# Altium schematic symbol library ti-davinci.SchLib: 1 symbol
Pins are listed as number, name and electrical type; pins without a type are passive.

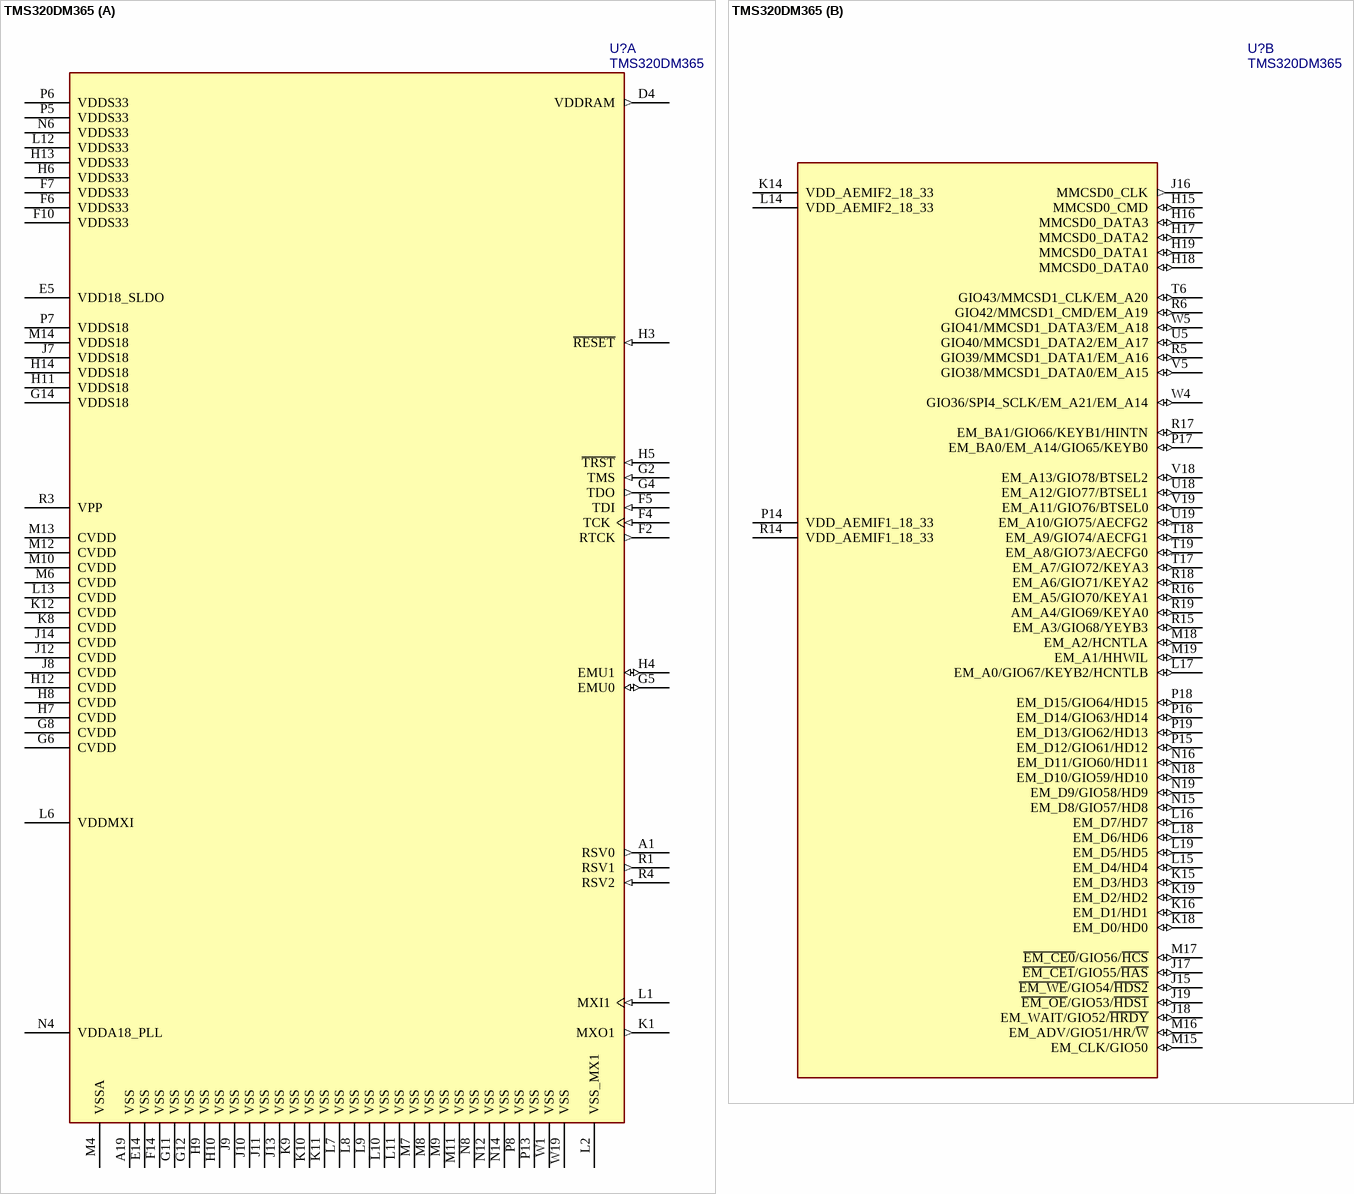
[diagram p0: symbol TMS320DM365]

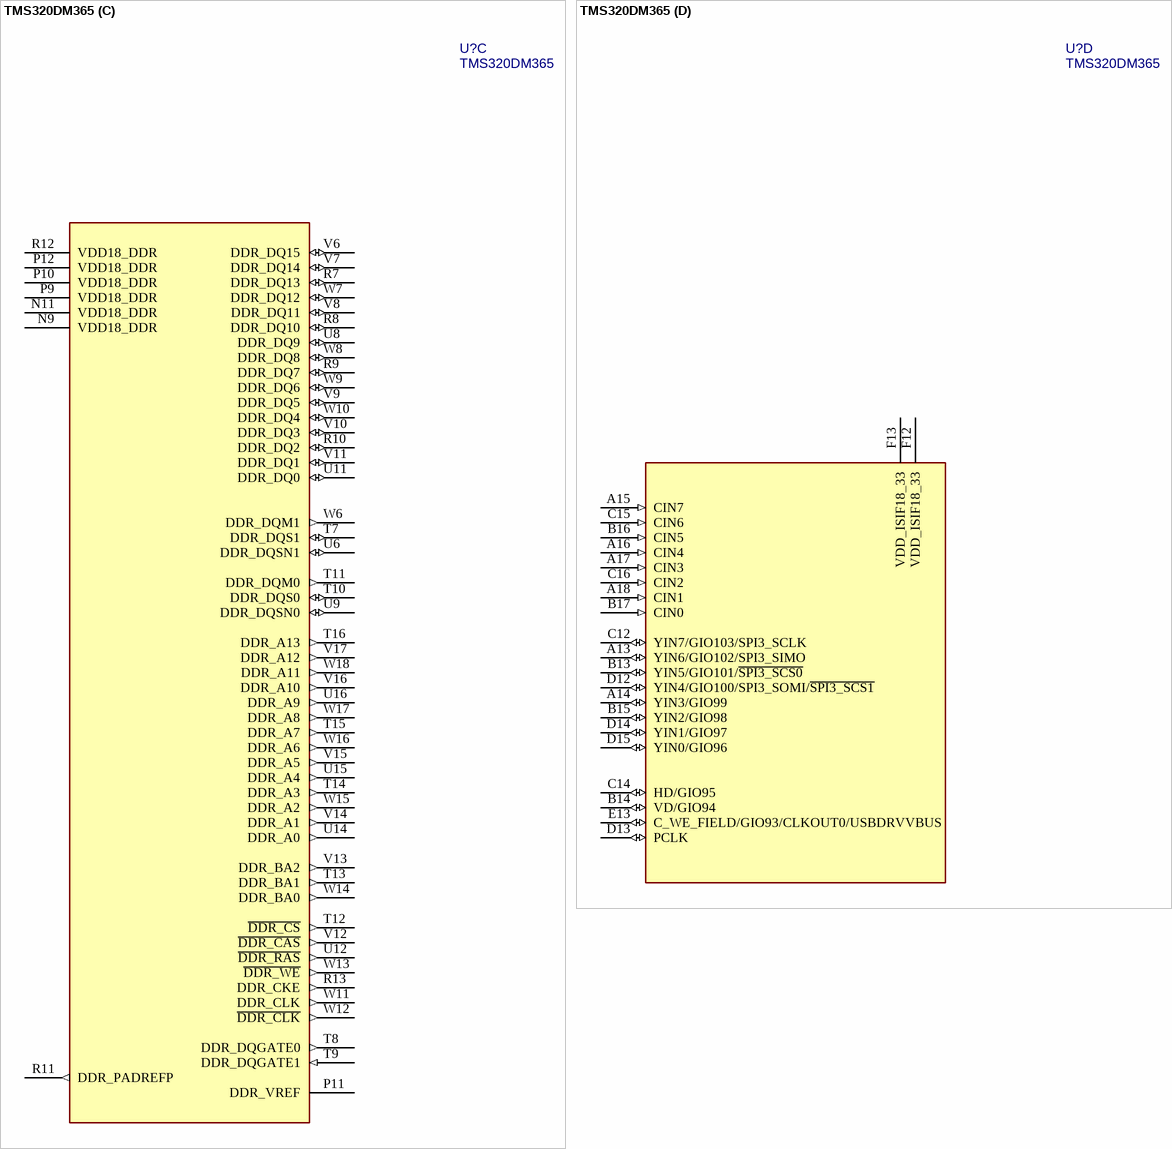
[diagram p1: symbol TMS320DM365]

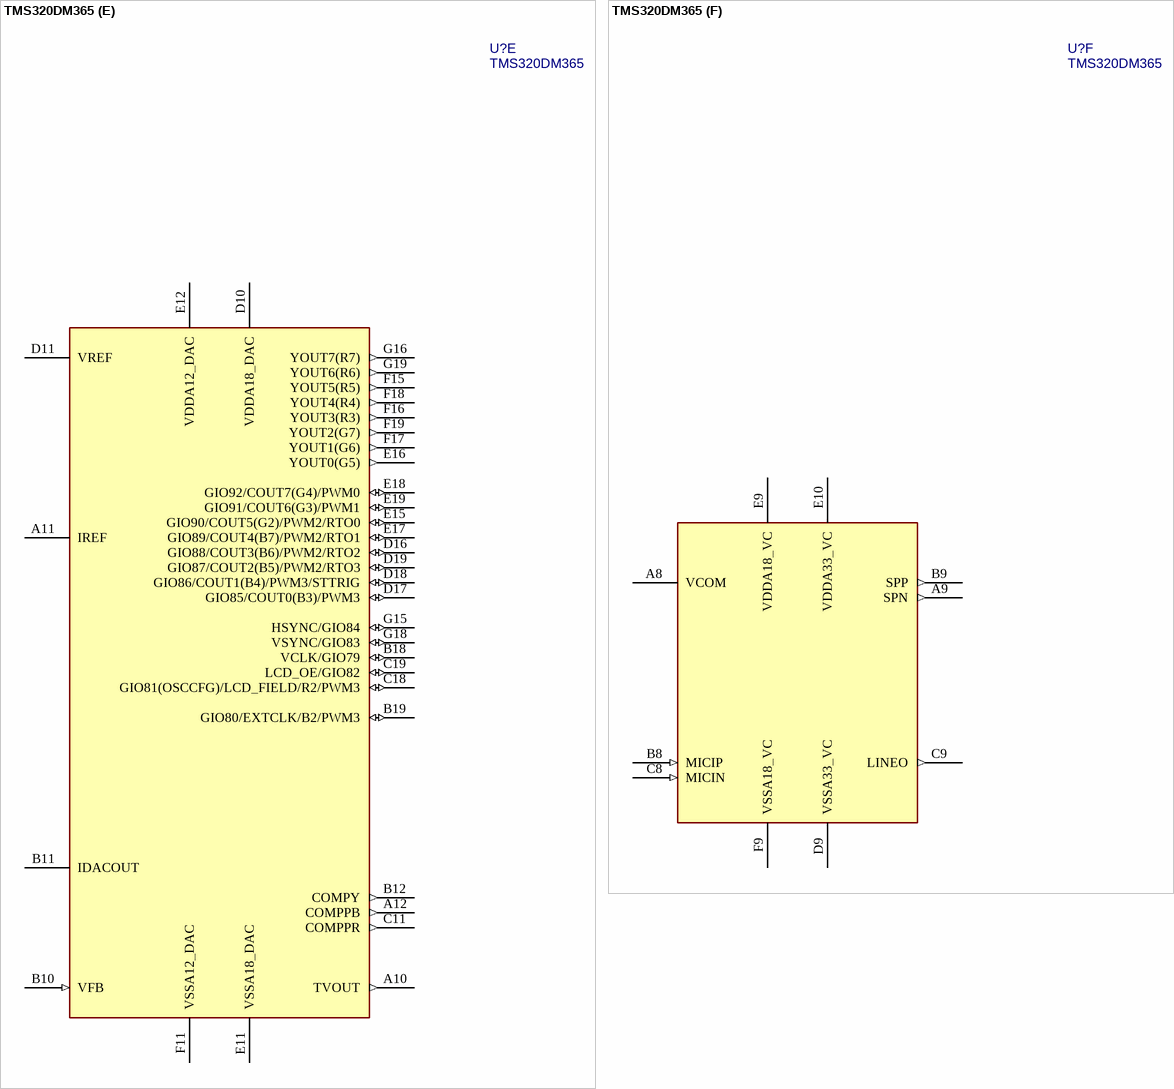
[diagram p2: symbol TMS320DM365]

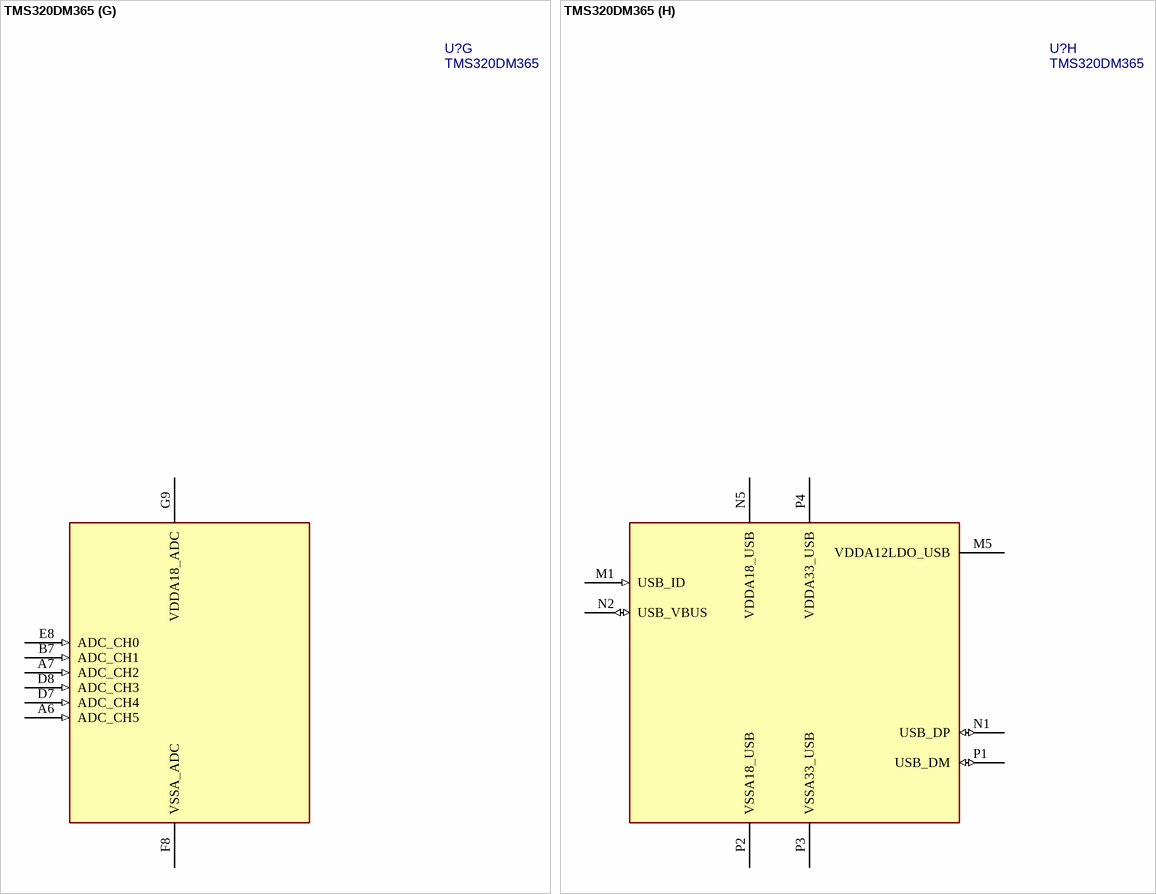
[diagram p3: symbol TMS320DM365]

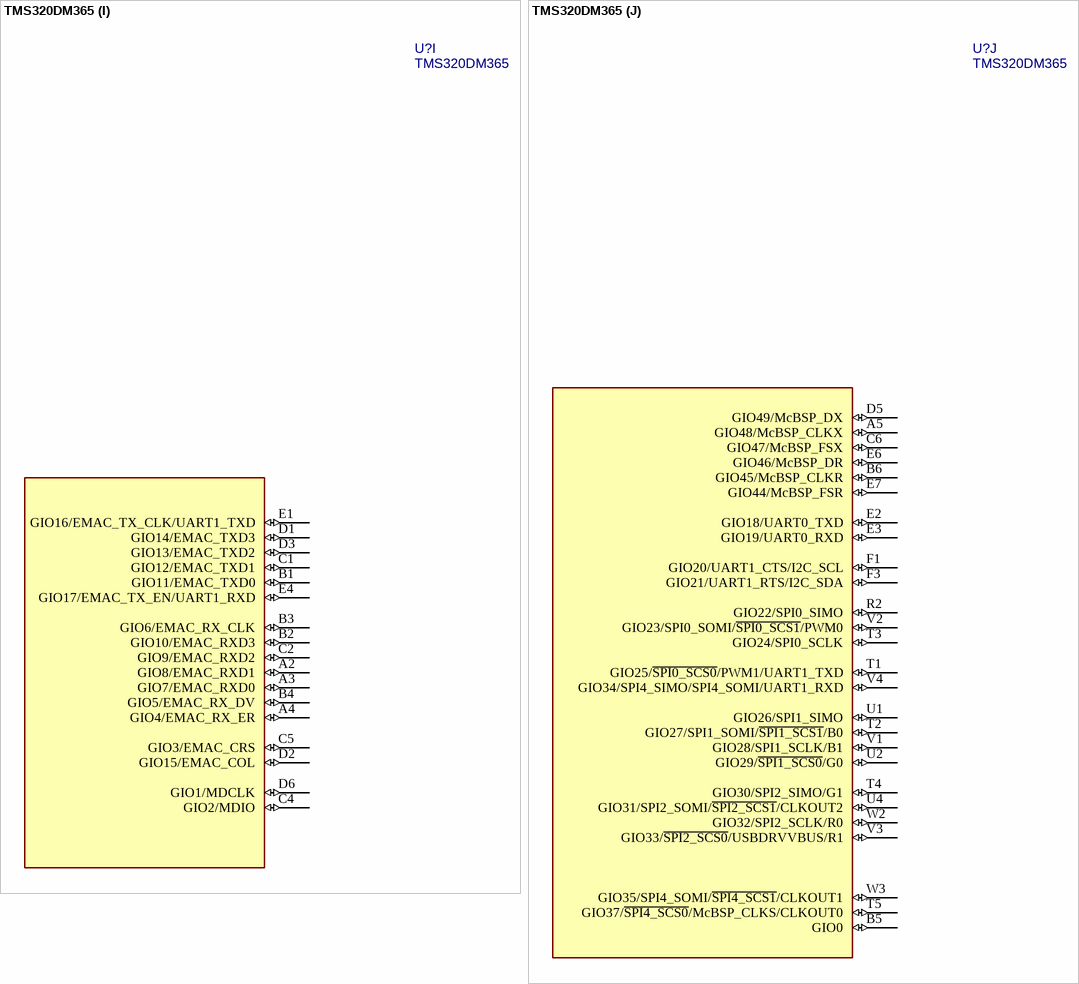
[diagram p4: symbol TMS320DM365]

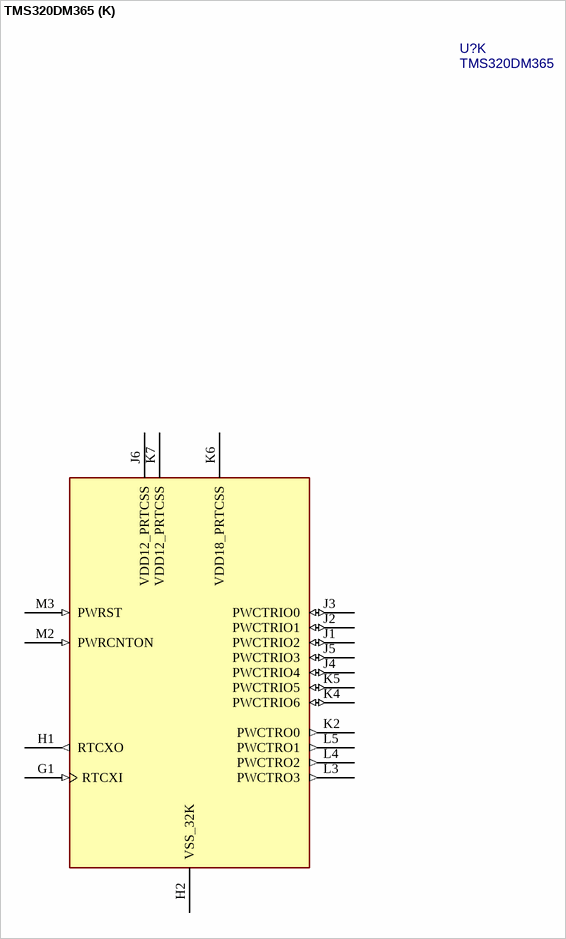
[diagram p5: symbol TMS320DM365]

## TMS320DM365
designator U?
Value: TMS320DM365; Package: *; PN: *; ExtraInfo: *
footprint PBGA-N338
footprint PBGA-N338 (BGA, 338-Leads, Body 13.0x13.0mm,  Pitch 0.65mm)
part A pins: A1 RSV0 (out), A19 VSS (power) "Digital Ground", D4 VDDRAM (out), E5 VDD18_SLDO (power) "Power supply for internal RAM", E14 VSS (power) "Digital Ground", F2 RTCK (out) "JTAG test clock output", F4 TCK (in) "JTAG test clock input", F5 TDI (in) "JTAG test data input", F6 VDDS33 (power) "Power supply for 3.3V I/O", F7 VDDS33 (power) "Power supply for 3.3V I/O", F10 VDDS33 (power) "Power supply for 3.3V I/O", F14 VSS (power) "Digital Ground", G2 TMS (in) "JTAG test mode select", G4 TDO (out) "JTAG test data output", G5 EMU0 (io) "JTAG emulation 0 I/O", G6 CVDD (power) "Core Power", G8 CVDD (power) "Core Power", G11 VSS (power) "Digital Ground", G12 VSS (power) "Digital Ground", G14 VDDS18 (power) "Power supply for 1.8V I/O", H3 ~{RESET} (in) "Global chip reset", H4 EMU1 (io) "JTAG emulation 1 I/O", H5 ~{TRST} (in) "JTAG test logic reset", H6 VDDS33 (power) "Power supply for 3.3V I/O", H7 CVDD (power) "Core Power", H8 CVDD (power) "Core Power", H9 VSS (power) "Digital Ground", H10 VSS (power) "Digital Ground", H11 VDDS18 (power) "Power supply for 1.8V I/O", H12 CVDD (power) "Core Power", H13 VDDS33 (power) "Power supply for 3.3V I/O", H14 VDDS18 (power) "Power supply for 1.8V I/O", J7 VDDS18 (power) "Power supply for 1.8V I/O", J8 CVDD (power) "Core Power", J9 VSS (power) "Digital Ground", J10 VSS (power) "Digital Ground", J11 VSS (power) "Digital Ground", J12 CVDD (power) "Core Power", J13 VSS (power) "Digital Ground", J14 CVDD (power) "Core Power", K1 MXO1 (out) "Onput for system oscillator", K8 CVDD (power) "Core Power", K9 VSS (power) "Digital Ground", K10 VSS (power) "Digital Ground", K11 VSS (power) "Digital Ground", K12 CVDD (power) "Core Power", L1 MXI1 (in) "Crystal input for system oscillator", L2 VSS_MX1 (power) "System oscillator ground", L6 VDDMXI (power) "Popwer supply for PLL oscillator (1.8V)", L7 VSS (power) "Digital Ground", L8 VSS (power) "Digital Ground", L9 VSS (power) "Digital Ground", L10 VSS (power) "Digital Ground", L11 VSS (power) "Digital Ground", L12 VDDS33 (power) "Power supply for 3.3V I/O", L13 CVDD (power) "Core Power", M4 VSSA (power) "Analog ground", M6 CVDD (power) "Core Power", M7 VSS (power) "Digital Ground", M8 VSS (power) "Digital Ground", M9 VSS (power) "Digital Ground", M10 CVDD (power) "Core Power", M11 VSS (power) "Digital Ground", M12 CVDD (power) "Core Power", M13 CVDD (power) "Core Power", M14 VDDS18 (power) "Power supply for 1.8V I/O", N4 VDDA18_PLL (power) "Analog power for PLL (1.8V)", N6 VDDS33 (power) "Power supply for 3.3V I/O", N8 VSS (power) "Digital Ground", N12 VSS (power) "Digital Ground", N14 VSS (power) "Digital Ground", P5 VDDS33 (power) "Power supply for 3.3V I/O", P6 VDDS33 (power) "Power supply for 3.3V I/O", P7 VDDS18 (power) "Power supply for 1.8V I/O", P8 VSS (power) "Digital Ground", P13 VSS (power) "Digital Ground", R1 RSV1 (out), R3 VPP (power) "Must be connected to CVDD", R4 RSV2 (in) "This pin must be tied to ground", W1 VSS (power) "Digital Ground", W19 VSS (power) "Digital Ground"
part B pins: H15 MMCSD0_CMD (io), H16 MMCSD0_DATA3 (io), H17 MMCSD0_DATA2 (io), H18 MMCSD0_DATA0 (io), H19 MMCSD0_DATA1 (io), J15 ~{EM_WE}/GIO54/~{HDS2} (io), J16 MMCSD0_CLK (out), J17 ~{EM_CE1}/GIO55/~{HAS} (io), J18 EM_WAIT/GIO52/~{HRDY} (io), J19 ~{EM_OE}/GIO53/~{HDS1} (io), K14 VDD_AEMIF2_18_33 (power) "Power supply for AEMIF (3.3/1.8V)", K15 EM_D3/HD3 (io), K16 EM_D1/HD1 (io), K18 EM_D0/HD0 (io), K19 EM_D2/HD2 (io), L14 VDD_AEMIF2_18_33 (power) "Power supply for AEMIF (3.3/1.8V)", L15 EM_D4/HD4 (io), L16 EM_D7/HD7 (io), L17 EM_A0/GIO67/KEYB2/HCNTLB (io), L18 EM_D6/HD6 (io), L19 EM_D5/HD5 (io), M15 EM_CLK/GIO50 (io), M16 EM_ADV/GIO51/HR/~{W} (io), M17 ~{EM_CE0}/GIO56/~{HCS} (io), M18 EM_A2/HCNTLA (io), M19 EM_A1/HHWIL (io), N15 EM_D8/GIO57/HD8 (io), N16 EM_D11/GIO60/HD11 (io), N18 EM_D10/GIO59/HD10 (io), N19 EM_D9/GIO58/HD9 (io), P14 VDD_AEMIF1_18_33 (power) "Power supply for AEMIF (3.3/1.8V)", P15 EM_D12/GIO61/HD12 (io), P16 EM_D14/GIO63/HD14 (io), P17 EM_BA0/EM_A14/GIO65/KEYB0 (io), P18 EM_D15/GIO64/HD15 (io), P19 EM_D13/GIO62/HD13 (io), R5 GIO39/MMCSD1_DATA1/EM_A16 (io), R6 GIO42/MMCSD1_CMD/EM_A19 (io), R14 VDD_AEMIF1_18_33 (power) "Power supply for AEMIF (3.3/1.8V)", R15 EM_A3/GIO68/YEYB3 (io), R16 EM_A5/GIO70/KEYA1 (io), R17 EM_BA1/GIO66/KEYB1/HINTN (io), R18 EM_A6/GIO71/KEYA2 (io), R19 AM_A4/GIO69/KEYA0 (io), T6 GIO43/MMCSD1_CLK/EM_A20 (io), T17 EM_A7/GIO72/KEYA3 (io), T18 EM_A9/GIO74/AECFG1 (io), T19 EM_A8/GIO73/AECFG0 (io), U5 GIO40/MMCSD1_DATA2/EM_A17 (io), U18 EM_A12/GIO77/BTSEL1 (io), U19 EM_A10/GIO75/AECFG2 (io), V5 GIO38/MMCSD1_DATA0/EM_A15 (io), V18 EM_A13/GIO78/BTSEL2 (io), V19 EM_A11/GIO76/BTSEL0 (io), W4 GIO36/SPI4_SCLK/EM_A21/EM_A14 (io), W5 GIO41/MMCSD1_DATA3/EM_A18 (io)
part C pins: N9 VDD18_DDR (power) "Powr supply for DDR (1.8V)", N11 VDD18_DDR (power) "Powr supply for DDR (1.8V)", P9 VDD18_DDR (power) "Powr supply for DDR (1.8V)", P10 VDD18_DDR (power) "Powr supply for DDR (1.8V)", P11 DDR_VREF (power), P12 VDD18_DDR (power) "Powr supply for DDR (1.8V)", R7 DDR_DQ13 (io), R8 DDR_DQ10 (io), R9 DDR_DQ7 (io), R10 DDR_DQ2 (io), R11 DDR_PADREFP (out), R12 VDD18_DDR (power) "Powr supply for DDR (1.8V)", R13 DDR_CKE (out), T7 DDR_DQS1 (io), T8 DDR_DQGATE0 (out), T9 DDR_DQGATE1 (in), T10 DDR_DQS0 (io), T11 DDR_DQM0 (out), T12 ~{DDR_CS} (out), T13 DDR_BA1 (out), T14 DDR_A3 (out), T15 DDR_A7 (out), T16 DDR_A13 (out), U6 DDR_DQSN1 (io), U8 DDR_DQ9 (io), U9 DDR_DQSN0 (io), U11 DDR_DQ0 (io), U12 ~{DDR_RAS} (out), U14 DDR_A0 (out), U15 DDR_A4 (out), U16 DDR_A9 (out), V6 DDR_DQ15 (io), V7 DDR_DQ14 (io), V8 DDR_DQ11 (io), V9 DDR_DQ5 (io), V10 DDR_DQ3 (io), V11 DDR_DQ1 (io), V12 ~{DDR_CAS} (out), V13 DDR_BA2 (out), V14 DDR_A1 (out), V15 DDR_A5 (out), V16 DDR_A10 (out), V17 DDR_A12 (out), W6 DDR_DQM1 (out), W7 DDR_DQ12 (io), W8 DDR_DQ8 (io), W9 DDR_DQ6 (io), W10 DDR_DQ4 (io), W11 DDR_CLK (out), W12 ~{DDR_CLK} (out), W13 ~{DDR_WE} (out), W14 DDR_BA0 (out), W15 DDR_A2 (out), W16 DDR_A6 (out), W17 DDR_A8 (out), W18 DDR_A11 (out)
part D pins: A13 YIN6/GIO102/SPI3_SIMO (io), A14 YIN3/GIO99 (io), A15 CIN7 (in), A16 CIN4 (in), A17 CIN3 (in), A18 CIN1 (in), B13 YIN5/GIO101/~{SPI3_SCS0} (io), B14 VD/GIO94 (io), B15 YIN2/GIO98 (io), B16 CIN5 (in), B17 CIN0 (in), C12 YIN7/GIO103/SPI3_SCLK (io), C14 HD/GIO95 (io), C15 CIN6 (in), C16 CIN2 (in), D12 YIN4/GIO100/SPI3_SOMI/~{SPI3_SCS1} (io), D13 PCLK (io), D14 YIN1/GIO97 (io), D15 YIN0/GIO96 (io), E13 C_WE_FIELD/GIO93/CLKOUT0/USBDRVVBUS (io), F12 VDD_ISIF18_33 (power) "Power supply for ISIF (3.3/1.8V)", F13 VDD_ISIF18_33 (power) "Power supply for ISIF (3.3/1.8V)"
part E pins: A10 TVOUT (out), A11 IREF, A12 COMPPB (out), B10 VFB (in), B11 IDACOUT, B12 COMPY (out), B18 VCLK/GIO79 (io), B19 GIO80/EXTCLK/B2/PWM3 (io), C11 COMPPR (out), C18 GIO81(OSCCFG)/LCD_FIELD/R2/PWM3 (io), C19 LCD_OE/GIO82 (io), D10 VDDA18_DAC (power) "Video DAC - Analog 1.8V power", D11 VREF, D16 GIO88/COUT3(B6)/PWM2/RTO2 (io), D17 GIO85/COUT0(B3)/PWM3 (io), D18 GIO86/COUT1(B4)/PWM3/STTRIG (io), D19 GIO87/COUT2(B5)/PWM2/RTO3 (io), E11 VSSA18_DAC (power) "Video DAC - Analog 1.8V ground", E12 VDDA12_DAC (power) "Video DAC - Analog 1.2V power", E15 GIO90/COUT5(G2)/PWM2/RTO0 (io), E16 YOUT0(G5) (out), E17 GIO89/COUT4(B7)/PWM2/RTO1 (io), E18 GIO92/COUT7(G4)/PWM0 (io), E19 GIO91/COUT6(G3)/PWM1 (io), F11 VSSA12_DAC (power) "Video DAC - Analog 1.2V ground", F15 YOUT5(R5) (out), F16 YOUT3(R3) (out), F17 YOUT1(G6) (out), F18 YOUT4(R4) (out), F19 YOUT2(G7) (out), G15 HSYNC/GIO84 (io), G16 YOUT7(R7) (out), G18 VSYNC/GIO83 (io), G19 YOUT6(R6) (out)
part F pins: A8 VCOM (power), A9 SPN (out), B8 MICIP (in) "MIC positive input", B9 SPP (out), C8 MICIN (in) "MIC negative input", C9 LINEO (out), D9 VSSA33_VC (power), E9 VDDA18_VC (power), E10 VDDA33_VC (power), F9 VSSA18_VC (power)
part G pins: A6 ADC_CH5 (in), A7 ADC_CH2 (in), B7 ADC_CH1 (in), D7 ADC_CH4 (in), D8 ADC_CH3 (in), E8 ADC_CH0 (in), F8 VSSA_ADC (power), G9 VDDA18_ADC (power)
part H pins: M1 USB_ID (in), M5 VDDA12LDO_USB (power), N1 USB_DP (io), N2 USB_VBUS (io), N5 VDDA18_USB (power), P1 USB_DM (io), P2 VSSA18_USB (power), P3 VSSA33_USB (power), P4 VDDA33_USB (power)
part I pins: A2 GIO8/EMAC_RXD1 (io), A3 GIO7/EMAC_RXD0 (io), A4 GIO4/EMAC_RX_ER (io), B1 GIO11/EMAC_TXD0 (io), B2 GIO10/EMAC_RXD3 (io), B3 GIO6/EMAC_RX_CLK (io), B4 GIO5/EMAC_RX_DV (io), C1 GIO12/EMAC_TXD1 (io), C2 GIO9/EMAC_RXD2 (io), C4 GIO2/MDIO (io), C5 GIO3/EMAC_CRS (io), D1 GIO14/EMAC_TXD3 (io), D2 GIO15/EMAC_COL (io), D3 GIO13/EMAC_TXD2 (io), D6 GIO1/MDCLK (io), E1 GIO16/EMAC_TX_CLK/UART1_TXD (io), E4 GIO17/EMAC_TX_EN/UART1_RXD (io)
part J pins: A5 GIO48/McBSP_CLKX (io), B5 GIO0 (io), B6 GIO45/McBSP_CLKR (io), C6 GIO47/McBSP_FSX (io), D5 GIO49/McBSP_DX (io), E2 GIO18/UART0_TXD (io), E3 GIO19/UART0_RXD (io), E6 GIO46/McBSP_DR (io), E7 GIO44/McBSP_FSR (io), F1 GIO20/UART1_CTS/I2C_SCL (io), F3 GIO21/UART1_RTS/I2C_SDA (io), R2 GIO22/SPI0_SIMO (io), T1 GIO25/~{SPI0_SCS0}/PWM1/UART1_TXD (io), T2 GIO27/SPI1_SOMI/~{SPI1_SCS1}/B0 (io), T3 GIO24/SPI0_SCLK (io), T4 GIO30/SPI2_SIMO/G1 (io), T5 GIO37/~{SPI4_SCS0}/McBSP_CLKS/CLKOUT0 (io), U1 GIO26/SPI1_SIMO (io), U2 GIO29/~{SPI1_SCS0}/G0 (io), U4 GIO31/SPI2_SOMI/~{SPI2_SCS1}/CLKOUT2 (io), V1 GIO28/SPI1_SCLK/B1 (io), V2 GIO23/SPI0_SOMI/~{SPI0_SCS1}/PWM0 (io), V3 GIO33/~{SPI2_SCS0}/USBDRVVBUS/R1 (io), V4 GIO34/SPI4_SIMO/SPI4_SOMI/UART1_RXD (io), W2 GIO32/SPI2_SCLK/R0 (io), W3 GIO35/SPI4_SOMI/~{SPI4_SCS1}/CLKOUT1 (io)
part K pins: G1 RTCXI (in) "Crystal input for PRTCSS oscillator", H1 RTCXO (out) "Crystal Output for PRTCSS oscillator", H2 VSS_32K (power) "PRTCSS oscillator ground", J1 PWCTRIO2 (io), J2 PWCTRIO1 (io), J3 PWCTRIO0 (io), J4 PWCTRIO4 (io), J5 PWCTRIO3 (io), J6 VDD12_PRTCSS (power) "Power supply for RTC oscillator", K2 PWCTRO0 (out), K4 PWCTRIO6 (io), K5 PWCTRIO5 (io), K6 VDD18_PRTCSS (power) "Power supply for PRTCSS (1.8V)", K7 VDD12_PRTCSS (power) "Power supply for RTC oscillator", L3 PWCTRO3 (out), L4 PWCTRO2 (out), L5 PWCTRO1 (out), M2 PWRCNTON (in) "Reset pin for system power sequencing", M3 PWRST (in) "Reset signal for PRTCSS"